# EAGLE library part DS90LV028AQ (library jack_IC)
LVDS Dual Differential Line Receiver http://www.ti.com/lit/ds/symlink/ds90lv028aq-q1.pdf
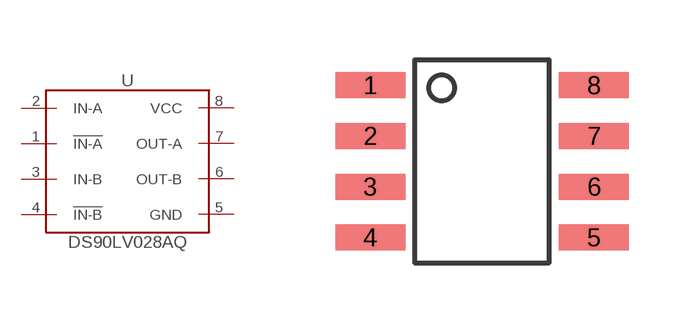
[diagram p7: symbol with the pads of SOIC_8; footprint SOIC_8]

Designator prefix U

## DS90LV028AQ  [SOIC_8]
1  !IN-A
2  IN-A
3  IN-B
4  !IN-B
5  GND
6  OUT-B
7  OUT-A
8  VCC

## Footprint SOIC_8 (pad centres in mm)
smd 1.75 x 0.65: 1 -2.8,1.905; 2 -2.8,0.635; 3 -2.8,-0.635; 4 -2.8,-1.905; 5 2.8,-1.905; 6 2.8,-0.635; 7 2.8,0.635; 8 2.8,1.905